# Altium schematic symbol library CONN_MISC.SchLib: 3 symbols
Pins are listed as number, name and electrical type; pins without a type are passive.

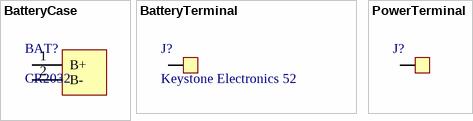
[diagram p0: symbols BatteryCase to PowerTerminal]

## BatteryCase
designator BAT?, comment CR2032  (no BOM)
Name: CR2032
footprint BAT_CASE
footprint BH-642_KLS5-CR2032-01 (KLS5-CR2032 01 Coin Cell Holder)
pins: 1 B+, 2 B-

## BatteryTerminal
designator J?, comment Keystone Electronics 52  (no BOM)
BATTERY CLIP-THM A/AA SNAP-IN PC; Value: Keystone Electronics 52; HelpURL: http://www.keyelco.com/product-pdf.cfm?p=825; Supplier: https://www.digikey.com/product-detail/en/keystone-electronics/52/36-52-ND/2137881
footprint KE_52 (Keystone Electronics 52)
footprint TH_TERMINAL_0.5mm
footprint TH_TERMINAL_1mm
footprint TH_TERMINAL_1.5mm
footprint KE_57 (Keystone Electronics 57)
pins: 1

## PowerTerminal
designator J?  (no BOM)
Power terminal
footprint TH_TERMINAL_0.5mm
footprint TH_TERMINAL_1mm
footprint TH_TERMINAL_1.5mm
pins: 1